# EAGLE library part 62404021722 (library WR-WTB)
WR-WTB 2.00 mm Male Dual Row Horizontal Shrouded Header w. positive locking Material Properties Insulator Material PBT Insulator Flammability Rating UL94 V-0 Color White Contact Material Copper Alloy Contact Plating Tin Contact Type Stamped Certification UL Approval E323964 General Information Operating Temperature -25 °C up to +85 °C Compliance RoHS IR 3 A Working Voltage 250 V (AC) Withstanding Voltage 1000 V (AC) Contact Resistance 20 mΩ RISO 1000 MΩ Pitch 2 mm Gender Male Type Horizontal Packaging Properties Packaging Tube <https://www.we-online.com/components/media/o33359v209%20Family_WR-WTB_6240xx21722.jpg> Details see: www.we-online.com/en/components/products/WTB_2_00_MALE_DUAL_ROW_HORIZONTAL_SHROUDED_HEADER_W_POSITIVE_LOCKING_6240XX21722 <www.we-online.com/catalog/WTB_2_00_MALE_DUAL_ROW_HORIZONTAL_SHROUDED_HEADER_W_POSITIVE_LOCKING_6240XX21722/?utm_source=eagle_model&utm_medium=description_link&utm_campaign=eisos_eagle> Updated by Ella 2025-03-06 2025 (C) Würth Elektronik
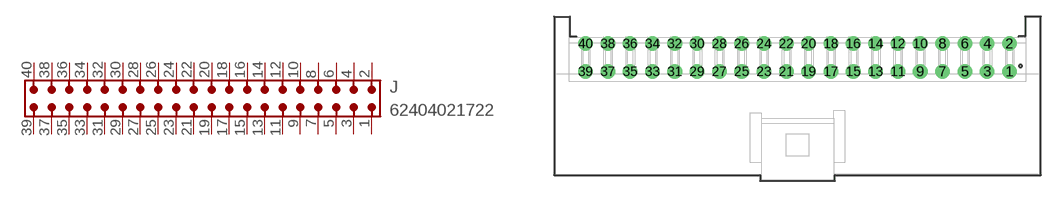
[diagram p9: symbol with the pads of 62404021722; footprint 62404021722]

Designator prefix J

## 62404021722 (CONTACT-RESISTANCE: 20mOhm; DATASHEET-URL: https://www.we-online.com/redexpert/spec/62404021722?ae; GENDER: Male; IR: 3A; L: 43.4mm; MOUNT: THT; PACKAGING: Tube; PART-NUMBER: 62404021722; PCB-CABLE-PANEL: PCB; PINS: 40; PITCH: 2mm; TYPE: Horizontal; VALUE: 62404021722; WORKING-VOLTAGE: 250V(AC))  [62404021722]
1  1  pas
2  2  pas
3  3  pas
4  4  pas
5  5  pas
6  6  pas
7  7  pas
8  8  pas
9  9  pas
10  10  pas
11  11  pas
12  12  pas
13  13  pas
14  14  pas
15  15  pas
16  16  pas
17  17  pas
18  18  pas
19  19  pas
20  20  pas
21  21  pas
22  22  pas
23  23  pas
24  24  pas
25  25  pas
26  26  pas
27  27  pas
28  28  pas
29  29  pas
30  30  pas
31  31  pas
32  32  pas
33  33  pas
34  34  pas
35  35  pas
36  36  pas
37  37  pas
38  38  pas
39  39  pas
40  40  pas

## Footprint 62404021722 (pad centres in mm)
WR-WTB 2.00 mm Male Dual Row Horizontal Shrouded Header w. positive locking, 40 pins
drill 0.8: 1 19,2.2; 2 19,4.7; 3 17,2.2; 4 17,4.7; 5 15,2.2; 6 15,4.7; 7 13,2.2; 8 13,4.7; 9 11,2.2; 10 11,4.7; 11 9,2.2; 12 9,4.7; 13 7,2.2; 14 7,4.7; 15 5,2.2; 16 5,4.7; 17 3,2.2; 18 3,4.7; 19 1,2.2; 20 1,4.7; 21 -1,2.2; 22 -1,4.7; 23 -3,2.2; 24 -3,4.7; 25 -5,2.2; 26 -5,4.7; 27 -7,2.2; 28 -7,4.7; 29 -9,2.2; 30 -9,4.7; 31 -11,2.2; 32 -11,4.7; 33 -13,2.2; 34 -13,4.7; 35 -15,2.2; 36 -15,4.7; 37 -17,2.2; 38 -17,4.7; 39 -19,2.2; 40 -19,4.7